# EAGLE library part TRULY-OV13855 (library m_opto)
TRULY OV13855 13 MPixel camera module
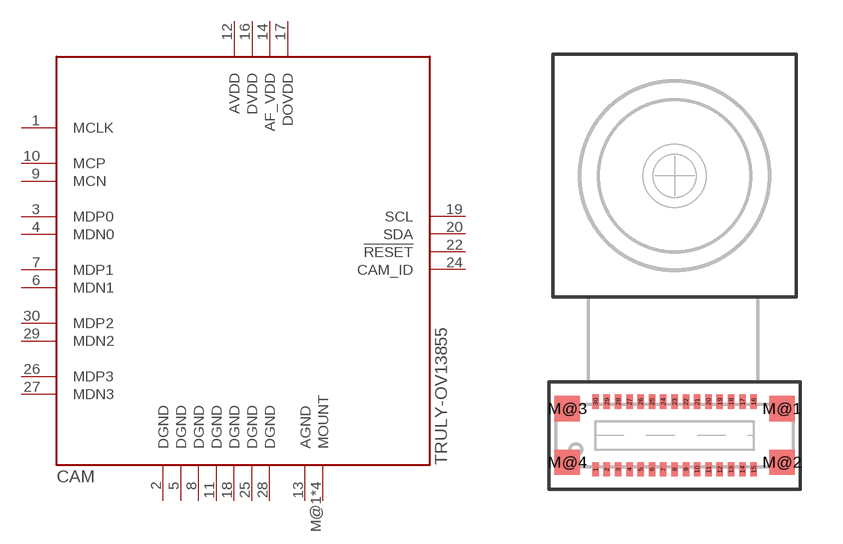
[diagram p8: symbol with the pads of PANASONIC-AXQ1301; footprint PANASONIC-AXQ1301]

Designator prefix CAM

## TRULY-OV13855 (MANUF: TRULY OPTO-ELECTRONICS LTD .; PARTNUM: OV13855)  [PANASONIC-AXQ1301]
1  MCLK
2  DGND
3  MDP0
4  MDN0
5  DGND
6  MDN1
7  MDP1
8  DGND
9  MCN
10  MCP
11  DGND
12  AVDD
13  AGND
14  AF_VDD
16  DVDD
17  DOVDD
18  DGND
19  SCL
20  SDA
22  !RESET
24  CAM_ID
25  DGND
26  MDP3
27  MDN3
28  DGND
29  MDN2
30  MDP2
M@1  MOUNT
M@2  MOUNT
M@3  MOUNT
M@4  MOUNT

## Footprint PANASONIC-AXQ1301 (pad centres in mm)
The connector used is PANASONIC AXQ1301
smd 0.23 x 0.5: 1 -2.8,-1.2; 2 -2.4,-1.2; 3 -2,-1.2; 4 -1.6,-1.2; 5 -1.2,-1.2; 6 -0.8,-1.2; 7 -0.4,-1.2; 8 0,-1.2; 9 0.4,-1.2; 10 0.8,-1.2; 11 1.2,-1.2; 12 1.6,-1.2; 13 2,-1.2; 14 2.4,-1.2; 15 2.8,-1.2; 16 2.8,1.2; 17 2.4,1.2; 18 2,1.2; 19 1.6,1.2; 20 1.2,1.2; 21 0.8,1.2; 22 0.4,1.2; 23 0,1.2; 24 -0.4,1.2; 25 -0.8,1.2; 26 -1.2,1.2; 27 -1.6,1.2; 28 -2,1.2; 29 -2.4,1.2; 30 -2.8,1.2
smd 0.9 x 0.9: M@1 3.8,0.95; M@2 3.8,-0.95; M@3 -3.8,0.95; M@4 -3.8,-0.95